# Altium schematic symbol library lightSCHLib.SchLib: 11 symbols
Pins are listed as number, name and electrical type; pins without a type are passive.

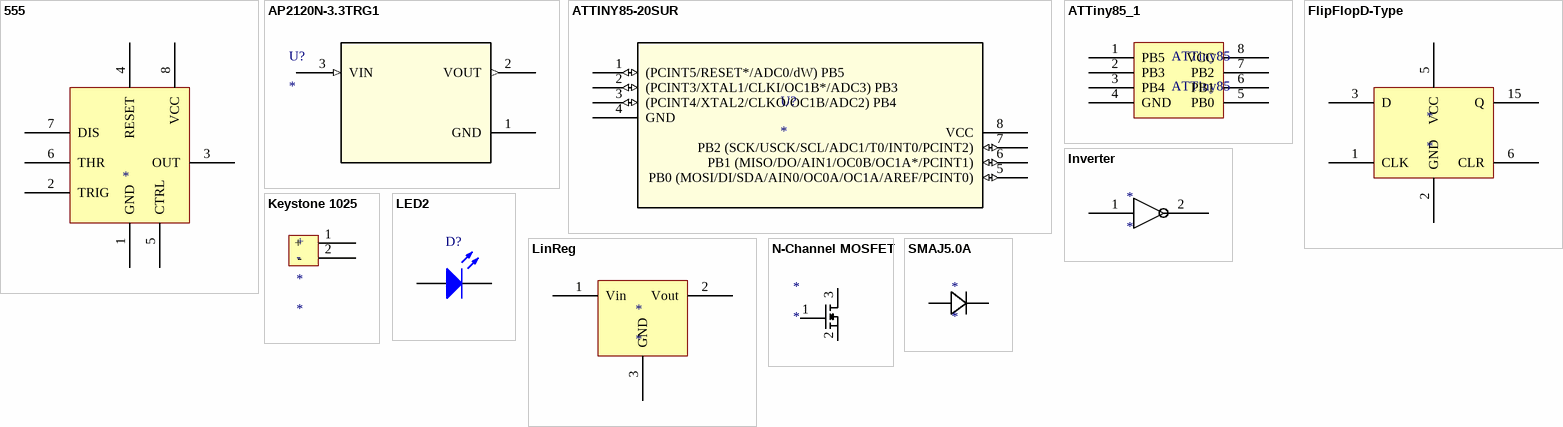
[diagram p0: symbols 555 to SMAJ5.0A]

## 555
designator ?
pins: 1 GND, 2 TRIG, 3 OUT, 4 RESET, 5 CTRL, 6 THR, 7 DIS, 8 VCC

## AP2120N-3.3TRG1
designator U?
IC REG LINEAR 3.3V 150MA SOT23; Manufacturer_Part_Number: AP2120N-3.3TRG1; Vendor: Diodes Inc; Built_By: EMA_UL_Team; RefDes: RefDes; Type: DEV; Value: Value
footprint SOT-23
footprint SOT-23
pins: 1 GND (power), 2 VOUT (out), 3 VIN (in)

## ATTINY85-20SUR
designator U?
Imported; Manufacturer_Part_Number: ATTINY85-20SUR; Vendor: Atmel; Built_By: EMA_UL_Team; C: Copyright (C) 2015 Accelerated Designs. All rights reserved; RefDes: RefDes; Type: DEV; Value: Value
footprint 8S2
pins: 1 (PCINT5/RESET*/ADC0/dW) PB5 (io), 2 (PCINT3/XTAL1/CLKI/OC1B*/ADC3) PB3 (io), 3 (PCINT4/XTAL2/CLKO/OC1B/ADC2) PB4 (io), 4 GND (power), 5 PB0 (MOSI/DI/SDA/AIN0/OC0A/OC1A/AREF/PCINT0) (io), 6 PB1 (MISO/DO/AIN1/OC0B/OC1A*/PCINT1) (io), 7 PB2 (SCK/USCK/SCL/ADC1/T0/INT0/PCINT2) (io), 8 VCC (power)

## ATTiny85_1
designator ATTiny85, comment ATTiny85
footprint 8S2
pins: 1 PB5, 2 PB3, 3 PB4, 4 GND, 5 PB0, 6 PB1, 7 PB2, 8 VCC

## FlipFlopD-Type
designator *
pins: 1 CLK, 2 GND, 3 D, 5 VCC, 6 CLR, 15 Q

## Inverter
designator *
pins: 1, 2

## Keystone 1025
designator *
BATT HOLDER COIN 1/2 CELL PC PIN
footprint 1025 (BATT HOLDER COIN 1/2 CELL PC PIN)
footprint 1025 (BATT HOLDER COIN 1/2 CELL PC PIN)
pins: 1 +, 2 -

## LED2
designator D?
Typical RED, GREEN, YELLOW, AMBER GaAs LED; Published: 8-Jun-2000; LatestRevisionDate: 17-Jul-2002; LatestRevisionNote: Re-released for DXP Platform.; PackageVersion: Feb-2002; PackageReference: 3.2X1.6X1.1; Publisher: Altium Limited; PackageDescription: SM LED; 2 Flat Leads
simulation model LED2 (Diode)
footprint HDR1X2 (Connector; Header; 2 Position)
pins: 1 A, 2 K

## LinReg
designator *
pins: 1 Vin, 2 Vout, 3 GND

## N-Channel MOSFET
designator *
footprint SOT416
pins: 1 G, 2 S, 3 D

## SMAJ5.0A
designator *
TVS Diode 5V 9.2V DO214AC; Manufacturer Part Number: SMAJ5.0A; ComponentLink1Description: Supplier Link; ComponentLink1URL: https://www.digikey.com/product-detail/en/littelfuse-inc/SMAJ5.0A/SMAJ5.0ALFCT-ND/762462; Type: Zener; Category: TVS Diode; Parameter 4: *; Parameter 5: *
footprint SMASeries
pins: 1, 2